# Altium footprint library special-drill.PCBLIB: 16 footprints
Each footprint in its own frame and in the unit in brackets; x right, y up, seen from the top. Pads: shape width x height; smd on the part's side, far side on the other; paste and mask are expansions set on the pad; w line width, h text height; cw(c..) or ccw(c..) is an arc to the next point about the centre after c.
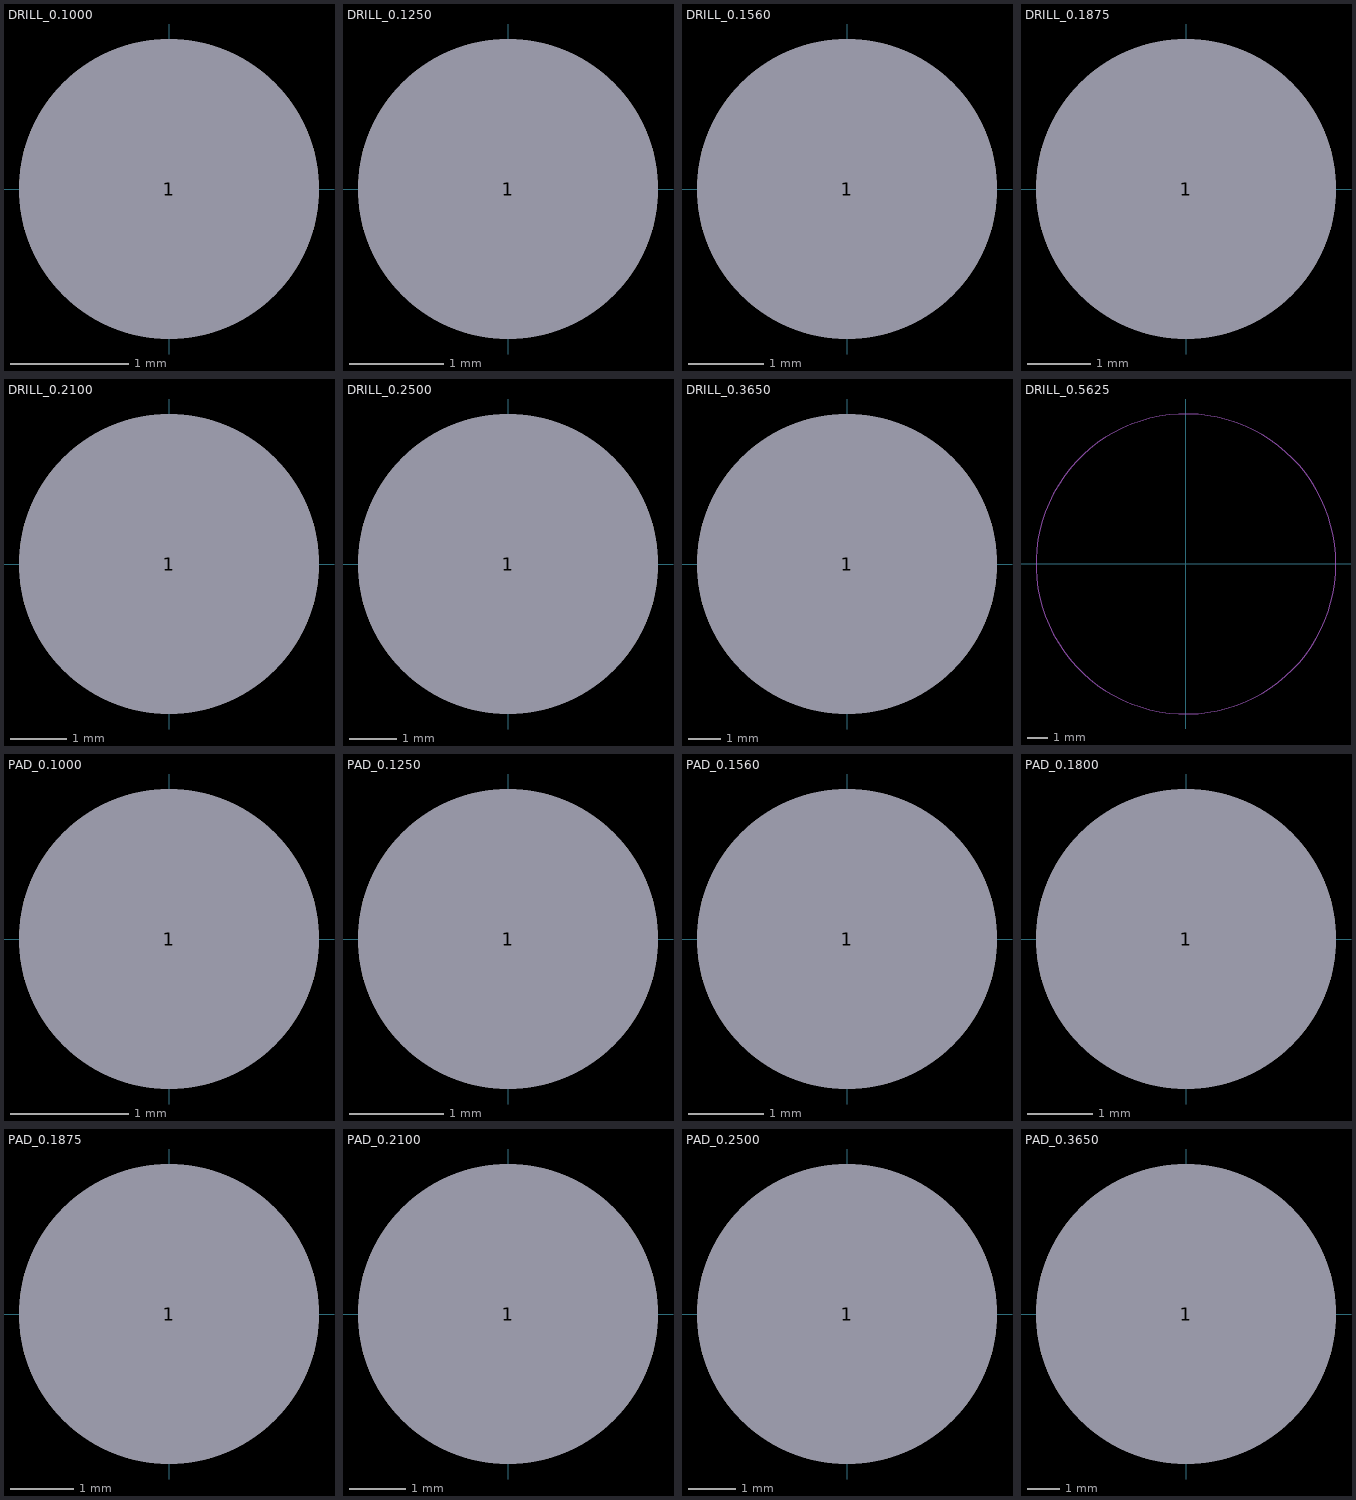
[diagram p0: the footprints below, top view; thin cyan lines are the x and y axes]

## DRILL_0.1000 [mil]
pads (1):
  round 100 hole 100: 1(0,0)

## DRILL_0.1250 [mil]
pads (1):
  round 125 hole 125: 1(0,0)

## DRILL_0.1560 [mil]
pads (1):
  round 156 hole 156: 1(0,0)

## DRILL_0.1875 [mil]
pads (1):
  round 187.5 hole 187.5: 1(0,0)

## DRILL_0.2100 [mil]
pads (1):
  round 210 hole 210: 1(0,0)

## DRILL_0.2500 [mil]
pads (1):
  round 250 hole 250: 1(0,0)

## DRILL_0.3650 [mil]
pads (1):
  round 365 hole 365: 1(0,0)

## DRILL_0.5625 [mil]
Mechanical 1:
  circle w1: c0,0 r281.3

## PAD_0.1000 [mil]
pads (1):
  round 100 hole 100: 1(0,0)

## PAD_0.1250 [mil]
pads (1):
  round 125 hole 125: 1(0,0)

## PAD_0.1560 [mil]
pads (1):
  round 156 hole 156: 1(0,0)

## PAD_0.1800 [mil]
pads (1):
  round 180 hole 180: 1(0,0)

## PAD_0.1875 [mil]
pads (1):
  round 187.5 hole 187.5: 1(0,0)

## PAD_0.2100 [mil]
pads (1):
  round 210 hole 210: 1(0,0)

## PAD_0.2500 [mil]
pads (1):
  round 250 hole 250: 1(0,0)

## PAD_0.3650 [mil]
pads (1):
  round 365 hole 365: 1(0,0)